# EAGLE library part WM8731 (library Soundwall)
Wolfson WM8731 Portable Internet Audio CODEC with Headphone Driver and Programmable Sample Rates
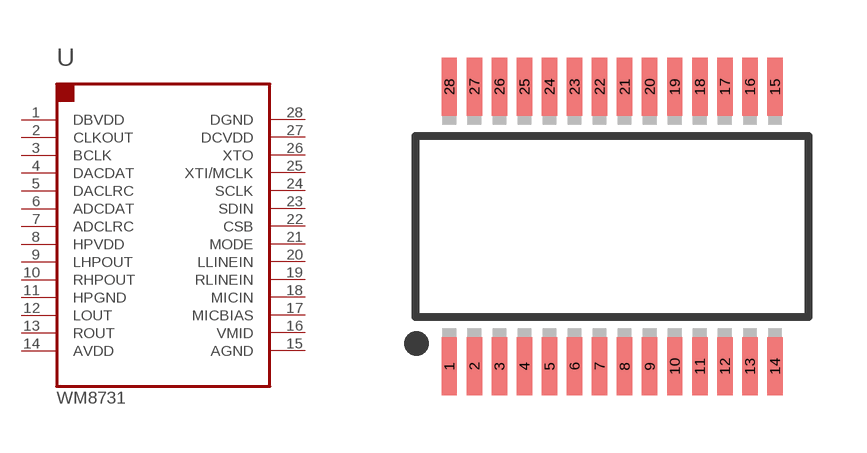
[diagram p0: symbol with the pads of SSOP28; footprint SSOP28]

Designator prefix U

## WM8731SEDS/V  [SSOP28]
1  DBVDD  pwr
2  CLKOUT  out
3  BCLK
4  DACDAT  in
5  DACLRC
6  ADCDAT  out
7  ADCLRC
8  HPVDD  pwr
9  LHPOUT  out
10  RHPOUT  out
11  HPGND  pwr
12  LOUT  out
13  ROUT  out
14  AVDD  pwr
15  AGND  pwr
16  VMID  out
17  MICBIAS  out
18  MICIN  in
19  RLINEIN  in
20  LLINEIN  in
21  MODE  in
22  CSB  in
23  SDIN
24  SCLK  in
25  XTI/MCLK  in
26  XTO  out
27  DCVDD  pas
28  DGND  pwr

## Footprint SSOP28 (pad centres in mm)
Shrink Small Outline Package 5.2mm body
smd 0.4 x 1.5: 1 -4.225,-3.625; 2 -3.575,-3.625; 3 -2.925,-3.625; 4 -2.275,-3.625; 5 -1.625,-3.625; 6 -0.975,-3.625; 7 -0.325,-3.625; 8 0.325,-3.625; 9 0.975,-3.625; 10 1.625,-3.625; 11 2.275,-3.625; 12 2.925,-3.625; 13 3.575,-3.625; 14 4.225,-3.625; 15 4.225,3.625; 16 3.575,3.625; 17 2.925,3.625; 18 2.275,3.625; 19 1.625,3.625; 20 0.975,3.625; 21 0.325,3.625; 22 -0.325,3.625; 23 -0.975,3.625; 24 -1.625,3.625; 25 -2.275,3.625; 26 -2.925,3.625; 27 -3.575,3.625; 28 -4.225,3.625